# Altium footprint library IRF9640PBF.PcbLib: 1 footprints
Each footprint in its own frame and in the unit in brackets; x right, y up, seen from the top. Pads: shape width x height; smd on the part's side, far side on the other; paste and mask are expansions set on the pad; w line width, h text height; cw(c..) or ccw(c..) is an arc to the next point about the centre after c.
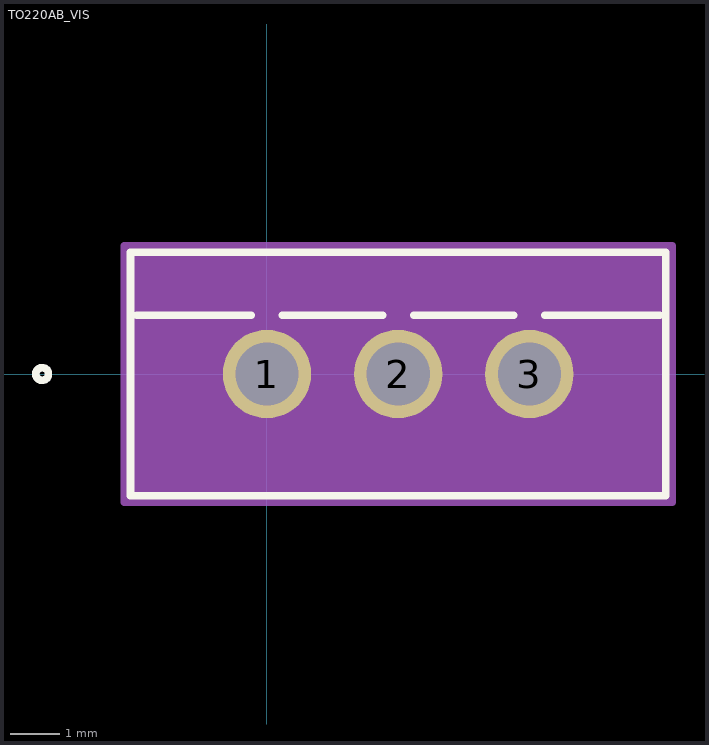
[diagram p0: the footprint, top view; thin cyan lines are the x and y axes]

## TO220AB_VIS [mil]
pads (3):
  round 70 / inner round 60 / far side round 70 hole 50 paste-35 mask+0: 1(0,0) 2(103.94,0) 3(207.87,0)
Top Overlay:
  circle w6: c-178.06,0 r5
  lines w6: -103.06,46.5 -12.3,46.5 ; 12.3,46.5 91.63,46.5 ; 116.24,46.5 195.57,46.5 ; 220.18,46.5 310.94,46.5 ; -108.06,-96.5 -108.06,96.5 315.94,96.5 315.94,-96.5 -108.06,-96.5
Mechanical 13:
  circle w0: c-93.06,0 r5
  lines w1: -103.06,41.5 310.94,41.5 ; -103.06,-91.5 -103.06,91.5 310.94,91.5 310.94,-91.5 -103.06,-91.5
  text "TAB" at 85.19,54 h25
Mechanical 15:
  region: 320.94,101.5 -113.06,101.5 -113.06,-101.5 320.94,-101.5
  lines w6: -113.06,-101.5 320.94,-101.5 320.94,101.5 -113.06,101.5 -113.06,-101.5
3D body "TO220AB_VIS.step": height 600, standoff -260, extent -103.07,-91.5 310.94,91.5